# Altium integrated library Resistors 1206.IntLib: 1 symbol
Pins are listed as number, name and electrical type; pins without a type are passive.

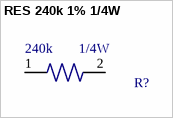
[diagram p0: symbol RES 240k 1% 1/4W]

## RES 240k 1% 1/4W
designator R?, comment Power: 1/4W  Resistence: 240k  (hidden comment: RES 1206)
240 kOhms ±1% 0.25W, 1/4W Chip Resistor 1206 (3216 Metric) Automotive AEC-Q200, High Voltage Thick Film; Manufacturer 1: Rohm Semiconductor; Manufacturer 1 PN: KTR18EZPF2403; Digikey PN: RHM240KAICT-ND; ComponentLink1Description: Datasheet; ComponentLink1URL: https://www.rohm.com/datasheet/KTR03EZPF/ktr-e; Mouser PN: 755-KTR18EZPF2403
footprint RES SMD 240 KOHM 1% 1/4W 1206 (240 kOhms ±1% 0.25W, 1/4W Chip Resistor 1206 (3216 Metric) Automotive AEC-Q200, High Voltage Thick Film)
pins: 1, 2